# Altium footprint library fszhang.PcbLib: 227 footprints (part 15 of 15)
Each footprint in its own frame and in the unit in brackets; x right, y up, seen from the top. Pads: shape width x height; smd on the part's side, far side on the other; paste and mask are expansions set on the pad; w line width, h text height; cw(c..) or ccw(c..) is an arc to the next point about the centre after c.
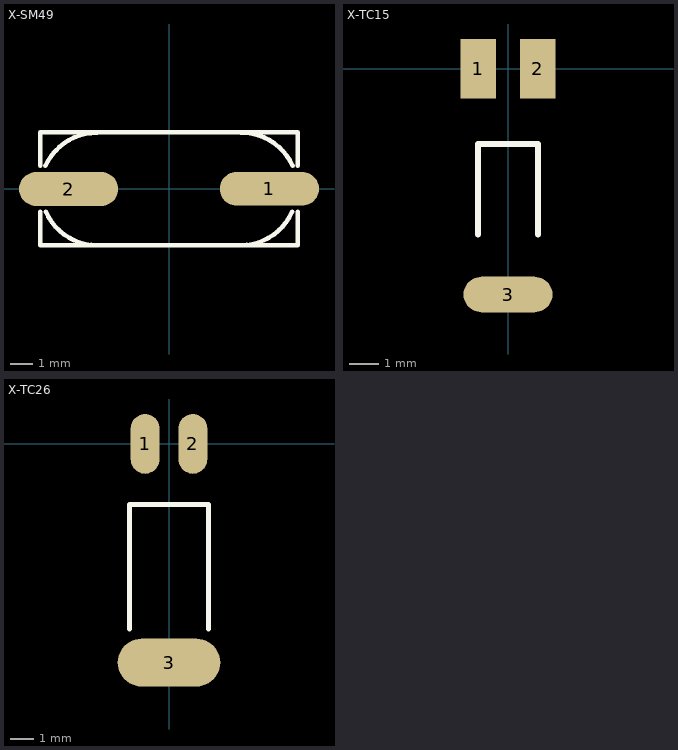
[diagram p14: the footprints below, top view; thin cyan lines are the x and y axes]

## X-SM49 [mm]
height 14.8
pads (2):
  oval 4.4x1.5 smd: 1(4.45,0.004) 2(-4.45,-0.004)
Top Overlay:
  lines w0.2: -5.7,-2.499 5.718,-2.499 ; -5.7,-2.496 -5.7,-1.016 ; -5.7,1.016 -5.7,2.504 5.718,2.504 5.718,1.016 ; -5.477,1.023 cw(c-3.202,-0.013) -3.175,2.487 ; -5.461,-1.016 ccw(c-3.176,-0.001) -3.176,-2.501 ; 3.175,-2.5 ccw(c3.175,0) 5.46,-1.015 ; 3.175,2.496 cw(c3.202,-0.004) 5.48,1.025 ; 5.718,-2.496 5.718,-1.016

## X-TC15 [mm] "圆柱晶振1"
pads (3):
  rect 1.2x2 smd: 1(-1,0) 2(1,0)
  oval 3x1.2 smd: 3(0,-7.62)
Top Overlay:
  lines w0.2: -1.016,-5.588 -1.016,-2.54 1.016,-2.54 1.016,-5.588
3D body: height 1.99, standoff 0, extent -0.998,-8.286 0.998,-2.286
3D body: height 1.1, standoff 0.9, extent -0.735,-3 -0.535,0
3D body: height 1.1, standoff 0.9, extent 0.535,-3 0.735,0

## X-TC26 [mm] "圆柱晶振2"
pads (3):
  oval 1.2x2.5 smd: 1(-1,0) 2(1,0)
  oval 4.3x2 smd: 3(0,-9.144)
Top Overlay:
  lines w0.2: -1.651,-7.747 -1.651,-2.54 1.651,-2.54 1.651,-7.747